# EAGLE library part ADUM4151 (library ADUM4151)
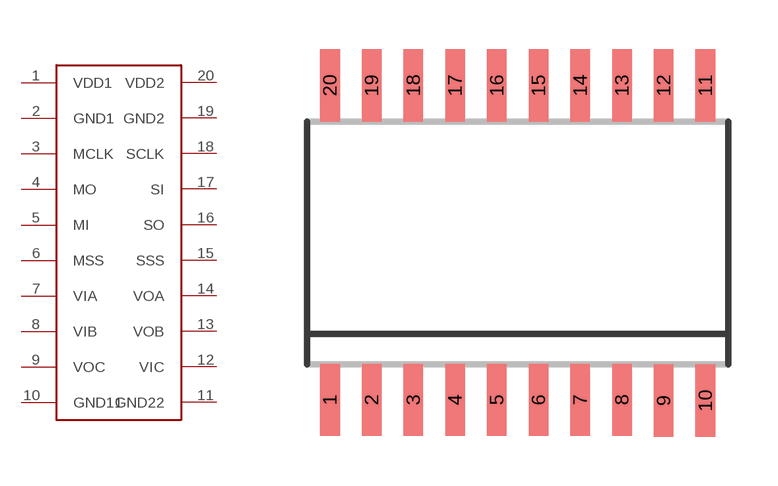
[diagram p0: symbol with the pads of SOIC20R; footprint SOIC20R]

Designator prefix -

## ADUM4151  [SOIC20R]
1  VDD1
2  GND1
3  MCLK
4  MO
5  MI
6  MSS
7  VIA
8  VIB
9  VOC
10  GND11
11  GND22
12  VIC
13  VOB
14  VOA
15  SSS
16  SO
17  SI
18  SCLK
19  GND2
20  VDD2

## Footprint SOIC20R (pad centres in mm)
20-LeadStandard Small Outline Package SOIC Wide Body (R-20) Source: http://www.analog.com/static/imported-files/data_sheets/AD811.pdf
smd 0.6 x 2.2: 1 -5.715,-4.775; 2 -4.445,-4.775; 3 -3.175,-4.775; 4 -1.905,-4.775; 5 -0.635,-4.775; 6 0.635,-4.775; 7 1.905,-4.775; 8 3.175,-4.775; 9 4.445,-4.8; 10 5.715,-4.8; 11 5.715,4.8; 12 4.445,4.8; 13 3.175,4.8; 14 1.905,4.8; 15 0.635,4.8; 16 -0.635,4.8; 17 -1.905,4.8; 18 -3.175,4.8; 19 -4.445,4.8; 20 -5.715,4.8